# Altium footprint library CONN_POWERJACK.PcbLib: 20 footprints (part 1 of 2)
Each footprint in its own frame and in the unit in brackets; x right, y up, seen from the top. Pads: shape width x height; smd on the part's side, far side on the other; paste and mask are expansions set on the pad; w line width, h text height; cw(c..) or ccw(c..) is an arc to the next point about the centre after c.
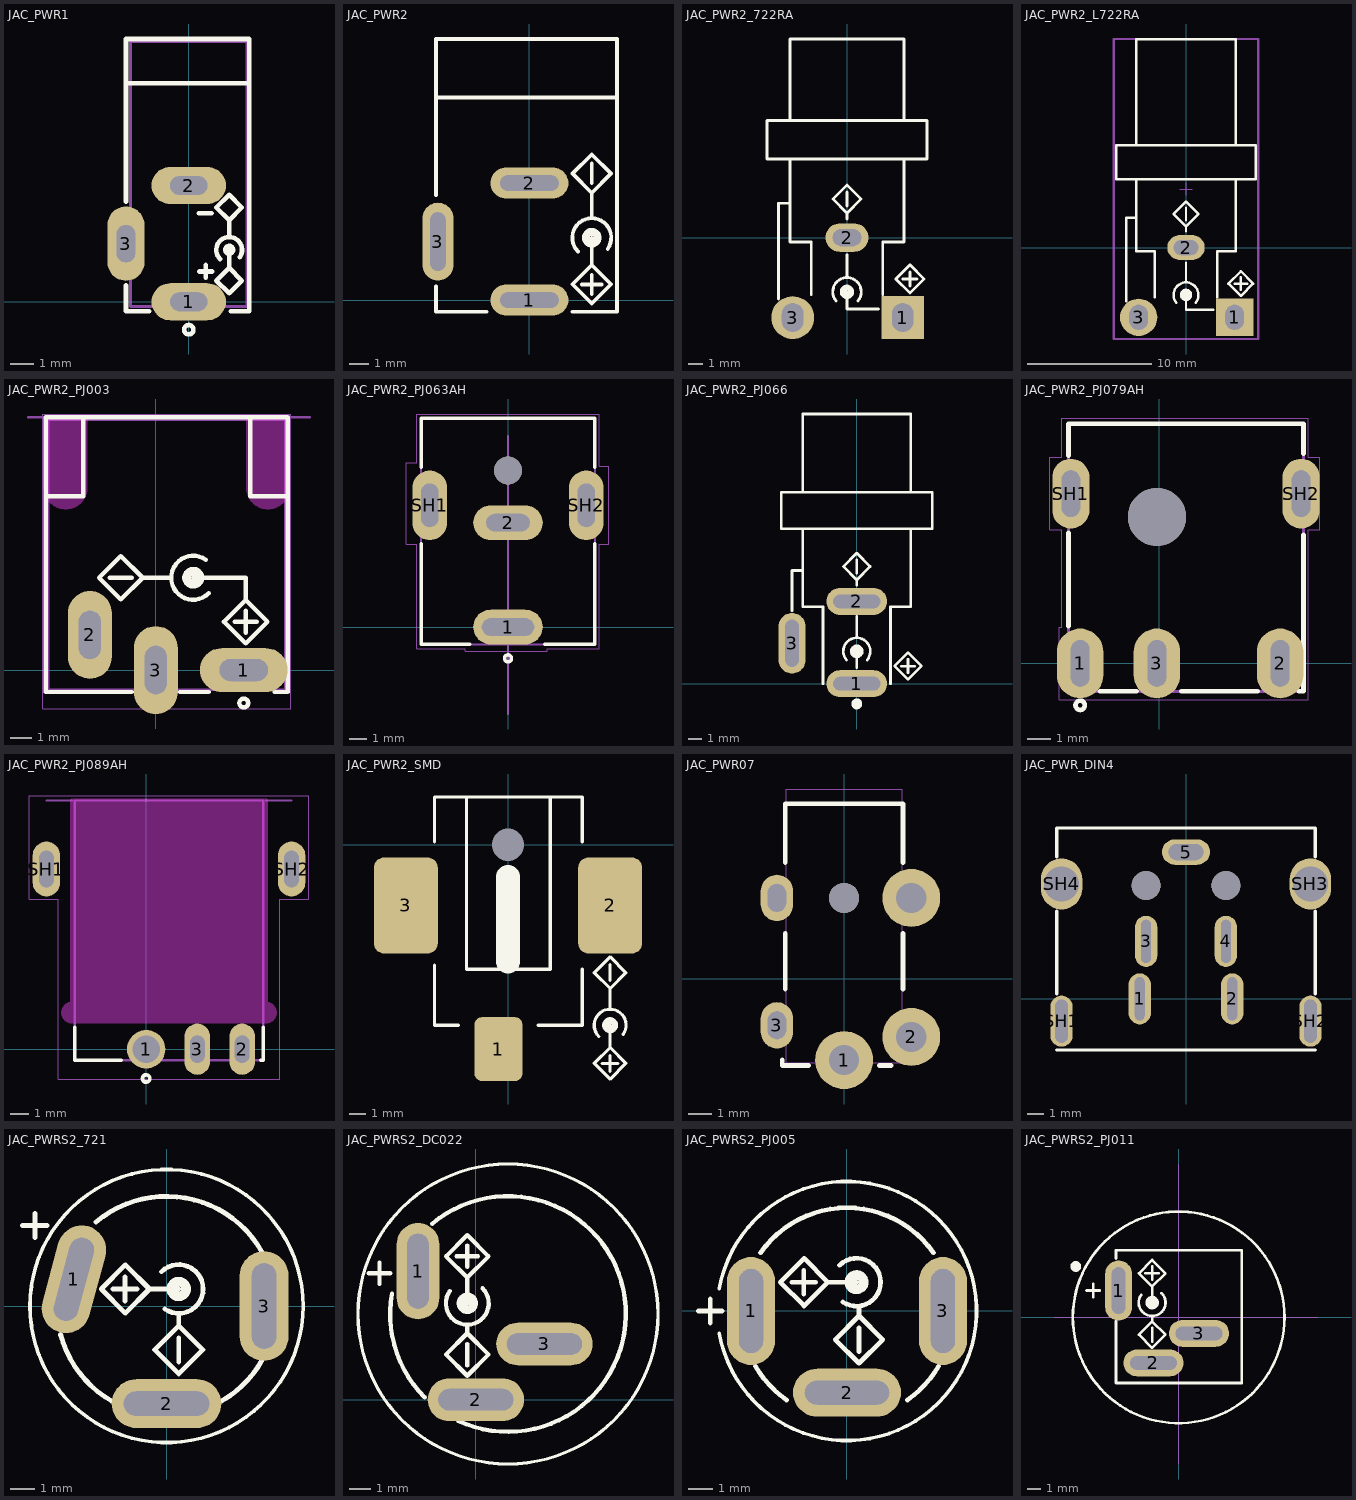
[diagram p0: the footprints below, top view; thin cyan lines are the x and y axes]

## JAC_PWR1 [mm] "DC POWER JACK, 1mm, Power Jack PJ-031C"
pads (3):
  oval 3.2x1.6 hole 0.8 slot 1.6 at 0 deg: 1(0,0) 2(0,5)
  oval 1.6x3.2 hole 0.8 slot 1.6 at 90 deg: 3(-2.7,2.5)
Top Overlay:
  circle w0.2: c1.737,2.234 r0.166
  circle w0.2: c0,-1.2 r0.2
  lines w0.2: -2.7,0.7 -2.7,-0.4 -1.7,-0.4 ; -2.7,4.3 -2.7,11.3 2.6,11.3 2.6,-0.4 1.8,-0.4 ; -2.6,9.4 2.6,9.4 ; 0.423,3.8 0.977,3.8 ; 0.46,1.305 1.014,1.305 ; 0.737,1.029 0.737,1.582 ; 1.346,1.843 cw(c1.737,2.234) 2.191,1.917 ; 1.737,2.234 1.737,1.459 ; 1.737,2.788 1.737,3.508 ; 1.737,1.459 1.189,0.911 1.737,0.363 2.285,0.911 1.737,1.459 ; 1.737,3.508 2.285,4.056 1.737,4.604 1.189,4.056 1.737,3.508
Mechanical 13:
  lines w0.127: -2.5,-0.2 -2.5,11.2 2.5,11.2 2.5,-0.2 -2.5,-0.2
3D body "CUI_DEVICES_PJ-031CH.step": height 7.4, standoff -3.2, extent -2.9,-0.4 2.5,11.2

## JAC_PWR2 [mm] "DC POWER JACK, Power Jack KLDX-0202"
pads (3):
  oval 4x1.6 hole 0.8 slot 3 at 0 deg: 1(0,0) 2(0,6)
  oval 1.6x4 hole 0.8 slot 3 at 90 deg: 3(-4.7,3)
Top Overlay:
  circle w0.4: c3.2,3.2 r0.3
  lines w0.2: -4.8,0.7 -4.8,-0.6 -2.2,-0.6 ; -4.8,5.4 -4.8,13.4 4.5,13.4 4.5,-0.6 2.2,-0.6 ; -4.8,10.4 4.5,10.4 ; 2.493,2.493 cw(c3.2,3.2) 4.019,2.626 ; 2.7,0.8 3.7,0.8 ; 3.2,0.3 3.2,1.3 ; 3.2,3.2 3.2,1.8 ; 3.2,4.2 3.2,5.5 ; 3.2,6 3.2,7 ; 3.2,1.8 2.21,0.81 3.2,-0.18 4.19,0.81 3.2,1.8 ; 3.2,5.5 4.19,6.49 3.2,7.48 2.21,6.49 3.2,5.5
3D body "KLDX-0202-A_rD2.STEP": height 10.8, standoff -4.1, extent -4.9,-0.65 4.5,13.85

## JAC_PWR2_722RA [mm] "DC POWER JACK, 2.1mm Dia, 722RA, right angled"
pads (3):
  rect 3x3 hole 1.5 slot 2 at 90 deg paste-2539.97 mask+0: 1(3.9,-5.6)
  oval 3x2 hole 1.2 slot 2 at 0 deg paste-2539.97 mask+0: 2(0,0)
  round 3 hole 1.5 slot 2 at 90 deg paste-2539.97 mask+0: 3(-3.8,-5.6)
Top Overlay:
  circle w0.4: c0,-3.8 r0.3
  lines w0.2: -4.8,-4.3 -4.8,2.4 -4,2.4 ; -4,5.5 -4,-0.3 -2.5,-0.3 -2.5,-4 ; -0.766,-4.443 cw(c0,-3.8) 0.766,-4.443 ; 0,-3.8 0,-5 2.2,-5 ; 0,-2.8 0,-1.2 ; 0,1.3 0,1.7 ; 0,2.2 0,3.2 ; 2.5,-4 2.5,-0.3 4,-0.3 4,5.5 ; 3.9,-2.9 4.9,-2.9 ; 4.4,-3.4 4.4,-2.4 ; -4,8.2 -4,13.9 4,13.9 4,8.2 ; -4,8.2 4,8.2 ; -4,8.2 -5.6,8.2 -5.6,5.5 5.6,5.5 5.6,8.2 4,8.2 ; 0,1.7 -0.99,2.69 0,3.68 0.99,2.69 0,1.7 ; 3.41,-2.89 4.4,-3.88 5.39,-2.89 4.4,-1.9 3.41,-2.89
3D body "722RA.STEP": height 13.88, standoff -3.57, extent -5.512,-7.018 5.512,13.79

## JAC_PWR2_L722RA [mm] "DC POWER JACK, 2.1mm Dia, L722RA, right angled"
pads (3):
  rect 3x3 hole 1.5 slot 2 at 90 deg paste-2539.97 mask+0: 1(3.9,-5.6)
  oval 3x2 hole 1.2 slot 2 at 0 deg paste-2539.97 mask+0: 2(0,0)
  round 3 hole 1.5 slot 2 at 90 deg paste-2539.97 mask+0: 3(-3.8,-5.6)
Top Overlay:
  circle w0.4: c0,-3.8 r0.3
  lines w0.2: -4.8,-4.3 -4.8,2.4 -4,2.4 ; -4,5.5 -4,-0.3 -2.5,-0.3 -2.5,-4 ; -0.766,-4.443 cw(c0,-3.8) 0.766,-4.443 ; 0,-3.8 0,-5 2.2,-5 ; 0,-2.8 0,-1.2 ; 0,1.3 0,1.7 ; 0,2.2 0,3.2 ; 2.5,-4 2.5,-0.3 4,-0.3 4,5.5 ; 3.9,-2.9 4.9,-2.9 ; 4.4,-3.4 4.4,-2.4 ; -4,8.2 -4,16.7 4,16.7 4,8.2 ; -4,8.2 4,8.2 ; -4,8.2 -5.6,8.2 -5.6,5.5 5.6,5.5 5.6,8.2 4,8.2 ; 0,1.7 -0.99,2.69 0,3.68 0.99,2.69 0,1.7 ; 3.41,-2.89 4.4,-3.88 5.39,-2.89 4.4,-1.9 3.41,-2.89
Mechanical 15:
  lines w0.1: -0.5,4.699 0.5,4.699 ; 0,4.199 0,5.199
  lines w0.2: -5.815,-7.339 5.815,-7.339 5.815,16.737 -5.815,16.737 -5.815,-7.339
3D body "Conn_Switchcraft_L722RA_eec.STEP": height 0.25, standoff 0, extent -5.815,-7.339 5.815,16.737

## JAC_PWR2_PJ003 [mm] "DC POWER JACK, CUI Inc. PJ-003A, 7.8mm Height, 2mm Center pin"
height 7.8
pads (3):
  oval 4x2 hole 1 slot 2.2 at 0 deg: 1(4,0)
  oval 2x4 hole 1 slot 2.2 at 90 deg: 2(-3,1.6) 3(0,0)
Top Overlay:
  circle w0.4: c1.7,4.2 r0.3
  circle w0.2: c4,-1.5 r0.2
  lines w0.2: -5,11.4 -5,-1 -1.1,-1 ; -3.3,11.4 -3.3,7.9 -5,7.9 -5,11.5 6,11.5 6,7.9 4.3,7.9 4.3,11.4 ; -2.1,4.2 -1.1,4.2 ; 0.7,4.2 -0.6,4.2 ; 1.1,-1 2.4,-1 ; 1.7,4.2 4.1,4.2 4.1,3.2 4.09,3.19 ; 2.274,5.019 ccw(c1.7,4.2) 2.407,3.493 ; 3.6,2.2 4.6,2.2 ; 4.1,1.7 4.1,2.7 ; 5.4,-1 6,-1 6,11.4 ; -0.6,4.2 -1.59,5.19 -2.58,4.2 -1.59,3.21 -0.6,4.2 ; 4.09,3.19 5.08,2.2 4.09,1.21 3.1,2.2 4.09,3.19
Keep-Out Layer:
  board cut-out: 6,11.5 6,8.3 6,8.211 5.965,8.037 5.898,7.874 5.799,7.726 5.674,7.601 5.526,7.502 5.363,7.435 5.189,7.4 5.1,7.4 5.011,7.4 4.837,7.435 4.674,7.502 4.526,7.601 4.401,7.726 4.302,7.874 4.235,8.037 4.2,8.211 4.2,8.3 4.2,11.5
  board cut-out: -5,11.5 -5,8.3 -5,8.211 -4.965,8.037 -4.898,7.874 -4.799,7.726 -4.674,7.601 -4.526,7.502 -4.363,7.435 -4.189,7.4 -4.1,7.4 -4.011,7.4 -3.837,7.435 -3.674,7.502 -3.526,7.601 -3.401,7.726 -3.302,7.874 -3.235,8.037 -3.2,8.211 -3.2,8.3 -3.2,11.5
Keep-Out Layer:
  lines w0.2: -5,8.3 ccw(c-4.1,8.3) -3.2,8.3 -3.2,11.5 -5,11.5 -5,8.3 ; 4.2,8.3 ccw(c5.1,8.3) 6,8.3 6,11.5 4.2,11.5 4.2,8.3
Mechanical 1:
  lines w0.1: -5.8,11.5 7,11.5
  lines w0.127: -4.9,-0.9 5.9,-0.9 5.9,11.4 -4.9,11.4 -4.9,-0.9
  text "Edge of Board" at -2.8,11.9 h1.2
Mechanical 4:
  lines w0.05: -5.15,-1.76 6.15,-1.76 6.15,11.65 -5.15,11.65 -5.15,-1.76
3D body "CUI_PJ-003A.step": height 7.8, standoff -2.9, extent -4.9,-0.9 5.9,11.4

## JAC_PWR2_PJ063AH [mm] "DC POWER JACK, CUI PJ-063AH, 2mm Center pin"
pads (5):
  oval 4x2 hole 1 slot 3 at 0 deg: 1(0,0)
  oval 4x2 hole 1 slot 2.5 at 0 deg: 2(0,6)
  oval 2x4 hole 1 slot 2.5 at 90 deg: SH1(-4.5,7) SH2(4.5,7)
  round 1.6 hole 1.6 unplated: ""(0,9)
Top Overlay:
  circle w0.2: c0,-1.8 r0.2
  lines w0.2: -5,4.8 -5,-1 -2.2,-1 ; -5,9.2 -5,12 5,12 5,9.2 ; 2.1,-1 5,-1 5,4.8
Mechanical 13:
  lines w0.102: 0,-5 0,11
  lines w0.127: -5,-1 5,-1 5,12 -5,12 -5,-1
Mechanical 15:
  lines w0.05: -5.85,4.75 -5.25,4.75 -5.25,-1.25 -2.45,-1.25 -2.45,-1.4 2.25,-1.4 2.25,-1.25 5.25,-1.25 5.25,4.75 5.8,4.75 5.8,9.25 5.25,9.25 5.25,12.25 -5.25,12.25 -5.25,9.45 -5.85,9.45 -5.85,4.75
3D body "CUI_DEVICES_PJ-063AH.step": height 9, standoff -3, extent -5.15,-1 5.15,12

## JAC_PWR2_PJ066 [mm] "DC POWER JACK, 2.1mm Dia, PJ-066A, right angled"
height 19
pads (3):
  oval 4.5x2 hole 1 slot 3.5 at 0 deg: 1(0,0) 2(0,6.1)
  oval 2x4.5 hole 1 slot 3.5 at 90 deg: 3(-4.8,3)
Top Overlay:
  circle w0.4: c0,2.4 r0.3
  circle w0.4: c0,-1.5 r0.2
  lines w0.2: -4.8,5.4 -4.8,8.4 -4,8.4 ; -4,11.5 -4,5.7 -2.5,5.7 -2.5,0 ; -0.766,1.757 cw(c0,2.4) 0.766,1.757 ; 0,1.2 0,2.4 ; 0,3.4 0,5 ; 0,7.3 0,7.7 ; 0,8.2 0,9.2 ; 2.5,0 2.5,5.7 4,5.7 4,11.5 ; 3.3,1.3 4.3,1.3 ; 3.8,0.8 3.8,1.8 ; -4,14.2 -5.6,14.2 -5.6,11.5 5.6,11.5 5.6,14.2 4,14.2 ; -4,14.2 4,14.2 ; -4,14.2 -4,20 4,20 4,14.2 ; 0,7.7 0.99,8.69 0,9.68 -0.99,8.69 0,7.7 ; 2.81,1.31 3.8,2.3 4.79,1.31 3.8,0.32 2.81,1.31
3D body "CUI_PJ-066A.step": height 12.25, standoff -2.85, extent -5.5,-0.15 5.5,19.9

## JAC_PWR2_PJ079AH [mm] "DC POWER JACK, CUI PJ-079AH, 2mm Center pin"
pads (6):
  oval 2x3 hole 0.8 slot 2 at 90 deg: 1(-3.4,0) 2(5.2,0) 3(-0.1,0)
  oval 1.6x3 hole 0.8 slot 2 at 90 deg: SH1(-3.8,7.3) SH2(6.1,7.3)
  round 2.5 hole 2.5 unplated: ""(-0.1,6.3)
Top Overlay:
  circle w0.2: c-3.4,-1.8 r0.2
  lines w0.2: -3.9,1.6 -3.9,5.62 ; -3.9,8.925 -3.9,10.3 6.2,10.3 6.2,9.025 ; -2.55,-1.2 -0.98,-1.2 ; 0.95,-1.2 4.24,-1.2 ; 6,-1.2 6.2,-1.2 6.2,5.53
Mechanical 13:
  lines w0.127: -3.9,-1.2 6.2,-1.2 6.2,10.3 -3.9,10.3 -3.9,-1.2
Mechanical 15:
  lines w0.05: -4.71,5.74 -4.2,5.74 -4.2,1.56 -4.31,1.56 -4.31,-1.56 6.4,-1.56 6.4,5.74 6.91,5.74 6.91,8.86 6.4,8.86 6.4,10.55 -4.2,10.55 -4.2,8.86 -4.71,8.86 -4.71,5.74
3D body "CUI_DEVICES_PJ-079AH.step": height 7.05, standoff -2.73, extent -3.87,-1.325 6.2,10.325

## JAC_PWR2_PJ089AH [mm] "DC POWER JACK, CUI PJ-089AH-MSMT, midmount, 5.4mm Height, 2mm Center pin"
height 5.4
pads (5):
  round 2.1 hole 1.5: 1(0,0)
  oval 1.4x2.8 hole 0.8 slot 1.5 at 90 deg: 2(5.25,0) 3(2.8,0)
  oval 1.5x3 hole 0.8 slot 2 at 90 deg: SH1(-5.45,9.85) SH2(7.95,9.85)
Top Overlay:
  circle w0.2: c0,-1.6 r0.2
  lines w0.2: -3.9,1.19 -3.9,-0.6 -1.36,-0.6 ; 6.27,-0.6 6.4,-0.6 6.4,1.19
Keep-Out Layer:
  board cut-out: -4.05,1.5 -4.149,1.5 -4.333,1.576 -4.474,1.717 -4.55,1.901 -4.55,2.099 -4.474,2.283 -4.333,2.424 -4.149,2.5 -4.05,2.5 -4.05,13.6 6.55,13.6 6.55,2.5 6.649,2.5 6.833,2.424 6.974,2.283 7.05,2.099 7.05,1.901 6.974,1.717 6.833,1.576 6.649,1.5 6.55,1.5
Keep-Out Layer:
  lines w0.2: -4.05,1.5 cw(c-4.05,2) -4.05,2.5 -4.05,13.6 6.55,13.6 6.55,2.5 cw(c6.55,2) 6.55,1.5 -4.05,1.5
Mechanical 1:
  lines w0.1: -5.45,13.6 -4.05,13.6 ; 6.55,13.6 7.95,13.6
Mechanical 13:
  lines w0.127: -3.9,-0.6 6.4,-0.6 6.4,13.6 -3.9,13.6 -3.9,-0.6
Mechanical 15:
  lines w0.05: -6.4,8.2 -4.8,8.2 -4.8,-1.65 7.3,-1.65 7.3,8.2 8.9,8.2 8.9,13.85 -6.4,13.85 -6.4,8.2
3D body "CUI_DEVICES_PJ-089AH-MSMT-TR.step": height 4.76, standoff -2.84, extent -5.6,-0.6 8.1,13.6

## JAC_PWR2_SMD [mm] "DC POWER JACK, CUI PJ-036A-SMT"
pads (4):
  rrect30% 3x4 smd: 1(-0.6,-12.8)
  rrect30% 4x6 smd: 2(6.4,-3.8) 3(-6.4,-3.8)
  rrect30% 0x0 hole 2.032 unplated: 4(0,0)
Top Overlay:
  circle w0.4: c6.4,-11.3 r0.3
  lines w0.2: -4.6,-7.55 -4.6,-11.3 -3.1,-11.3 ; -4.6,0.2 -4.6,3 4.65,3 4.65,0.2 ; -2.6,3 -2.6,-7.8 2.65,-7.8 2.65,2.9 ; 1.9,-11.3 4.65,-11.3 4.65,-7.8 ; 5.693,-12.007 cw(c6.4,-11.3) 7.219,-11.874 ; 5.9,-13.7 6.9,-13.7 ; 6.4,-14.2 6.4,-13.2 ; 6.4,-11.3 6.4,-12.7 ; 6.4,-10.3 6.4,-9 ; 6.4,-8.5 6.4,-7.5 ; 6.4,-12.7 7.39,-13.69 6.4,-14.68 5.41,-13.69 6.4,-12.7 ; 6.4,-9 5.41,-8.01 6.4,-7.02 7.39,-8.01 6.4,-9
  lines w1.5: 0,-7.3 0,-2
3D body "CUI-PJ-036A-SMT.step": height 11.09, standoff -1.51, extent -7.5,-14.1 7.7,3

## JAC_PWR07 [mm] "DC POWER JACK, 0.7mm ID, 2.35mm OD"
height 5
pads (6):
  round 2.5 hole 1.3: 1(0,-3.5) 2(2.9,-2.5) ""(2.9,3.5)
  oval 1.4x2 hole 0.8 slot 1.2 at 90 deg: 3(-2.9,-2) ""(-2.9,3.5)
  round 1.3 hole 1.3 unplated: ""(0,3.5)
Top Overlay:
  lines w0.2: -2.667,-3.484 -2.667,-3.738 -1.524,-3.738 ; -2.54,-0.436 -2.54,1.977 ; -2.54,5.025 -2.54,7.565 2.54,7.565 2.54,5.025 ; 1.524,-3.738 2.032,-3.738 ; 2.54,-0.436 2.54,1.977
Mechanical 13:
  lines w0.05: -2.819,-2.506 -2.819,-1.515 ; -2.819,3.006 -2.819,3.996 ; -2.502,-2.506 -3.073,-2.506 -3.073,-1.515 -2.502,-1.515 ; -2.502,3.006 -3.073,3.006 -3.073,3.996 -2.502,3.996 ; -0.495,-3.611 -0.495,-3.738 0.495,-3.738 0.495,-3.611 ; 2.502,-2.989 3.073,-2.989 3.073,-1.998 2.502,-1.998 ; 2.502,3.006 3.073,3.006 3.073,3.996 2.502,3.996 ; 2.819,-2.989 2.819,-1.998 ; 2.819,3.006 2.819,3.996 ; -2.502,-3.611 -2.502,8.2 2.502,8.2 2.502,-3.611 -2.502,-3.611
3D body "Conn_Kobiconn_163-4307-E.stp": height 5, standoff -2.5, extent -3.309,-3.854 3.309,8.2

## JAC_PWR_DIN4 [mm] "Power Connector, KPJX-4S-S"
height 5
pads (11):
  oval 1.4x3.2 hole 0.6 slot 2.7 at 90 deg: 1(-2.9,0) 2(2.9,0) 3(-2.5,3.6) 4(2.5,3.6)
  oval 3x1.6 hole 1 slot 2.2 at 0 deg: 5(0,9.2)
  oval 1.4x3.2 hole 0.8 slot 2.7 at 90 deg: SH1(-7.8,-1.4) SH2(7.8,-1.4)
  oval 2.6x3.2 hole 2.2: SH3(7.8,7.2) SH4(-7.8,7.2)
  round 1.8 hole 1.8 unplated: ""(-2.5,7.1) ""(2.5,7.1)
Top Overlay:
  lines w0.2: -8.1,-3.2 8.1,-3.2 ; -8.1,0.3 -8.1,5.5 ; -8.1,8.9 -8.1,10.7 8.1,10.7 8.1,8.9 ; 8.1,0.3 8.1,5.5
3D body "User Library-KPJX-4S-S.step": height 15, standoff -3.5, extent -8,-3.05 8,14.6

## JAC_PWRS2_721 [mm] "DC POWER JACK, 2.1mm Dia, SWITCHCRAFT 721A"
height 19
pads (3):
  oval 2x4.5 hole 1 slot 3.5 at 75 deg rot 165: 1(-3.8,1.1)
  oval 4.5x2 hole 1 slot 3.5 at 0 deg: 2(0,-4)
  oval 2x4.5 hole 1 slot 3.5 at 90 deg: 3(4,0)
Top Overlay:
  circle w0.15: c0,0 r5.6
  circle w0.4: c0.5,0.7 r0.3
  lines w0.2: -5.9,3.3 -4.9,3.3 ; -5.4,2.8 -5.4,3.8 ; -4.347,-1.165 ccw(c0,0) -2.25,-3.897 ; -2.893,3.447 cw(c0,0) 3.897,2.25 ; -2.2,0.7 -1.2,0.7 ; -1.7,0.2 -1.7,1.2 ; -0.207,1.407 cw(c0.5,0.7) -0.074,-0.119 ; 0.5,-2.3 0.5,-1.3 ; 0.5,-0.4 0.5,-0.8 ; 0.5,0.7 -0.7,0.7 ; 2.25,-3.897 ccw(c0,0) 3.897,-2.25 ; -0.7,0.7 -1.69,1.69 -2.68,0.7 -1.69,-0.29 -0.7,0.7 ; 0.5,-0.8 -0.49,-1.79 0.5,-2.78 1.49,-1.79 0.5,-0.8
3D body "721A_edited.STEP": height 16.06, standoff -4.77, extent -5.512,-5.512 5.512,5.512

## JAC_PWRS2_DC022 [mm] "DC POWER JACK, 2.1mm Dia, DC-022"
height 19
pads (3):
  oval 2x4.5 hole 1 slot 3.5 at 90 deg: 1(-2.7,6)
  oval 4.5x2 hole 1 slot 3.5 at 0 deg: 2(0,0) 3(3.2,2.6)
Top Overlay:
  circle w0.4: c-0.4,4.5 r0.3
  circle w0.15: c1.5,4 r7
  lines w0.2: -5,5.9 -4,5.9 ; -4.5,5.4 -4.5,6.4 ; -3.916,4.955 ccw(c1.5,4) -2.389,0.111 ; -2.035,8.213 cw(c1.5,4) -0.824,-0.985 ; -1.219,5.074 ccw(c-0.4,4.5) 0.307,5.207 ; -0.9,6.7 0.1,6.7 ; -0.4,1.6 -0.4,2.6 ; -0.4,3.5 -0.4,3.1 ; -0.4,4.5 -0.4,5.7 ; -0.4,6.2 -0.4,7.2 ; -0.4,3.1 0.59,2.11 -0.4,1.12 -1.39,2.11 -0.4,3.1 ; -0.4,5.7 -1.39,6.69 -0.4,7.68 0.59,6.69 -0.4,5.7
3D body "User Library-KLS1-DC-022B.step": height 13.8, standoff -4.5, extent -6,-4.66 9,12.66

## JAC_PWRS2_PJ005 [mm] "DC POWER JACK, 2.1mm Dia, PJ-005A"
height 19
pads (3):
  oval 2x4.5 hole 1 slot 3.5 at 90 deg: 1(-4,0) 3(4,0)
  oval 4.5x2 hole 1 slot 3.5 at 0 deg: 2(0,-3.4)
Top Overlay:
  circle w0.4: c0.4,1.2 r0.3
  lines w0.15: -5.318,-0.938 ccw(c0,0) -5.318,0.938
  lines w0.2: -6.2,0 -5.2,0 ; -5.7,-0.5 -5.7,0.5 ; -3.811,-2.3 ccw(c0,-0.1) -2.524,-3.704 ; -3.604,2.424 cw(c0,-0.1) 3.604,2.424 ; -2.3,1.2 -1.3,1.2 ; -1.8,0.7 -1.8,1.7 ; -0.307,1.907 cw(c0.4,1.2) -0.174,0.381 ; 0.4,1.2 -0.8,1.2 ; 0.5,-1.7 0.5,-0.7 ; 0.5,0.2 0.5,-0.2 ; 2.524,-3.704 ccw(c0,-0.1) 3.811,-2.3 ; -0.8,1.2 -1.79,2.19 -2.78,1.2 -1.79,0.21 -0.8,1.2 ; 0.5,-0.2 -0.49,-1.19 0.5,-2.18 1.49,-1.19 0.5,-0.2
3D body "CUI_PJ-005A.step": height 16.15, standoff -4.75, extent -5.275,-5.773 5.275,5.774

## JAC_PWRS2_PJ011 [mm] "DC POWER JACK, 2.0mm Dia, PJ-011A"
height 13
pads (3):
  oval 2x4.5 hole 1 slot 3.5 at 90 deg: 1(-4.5,2)
  oval 4.5x2 hole 1 slot 3.5 at 0 deg: 2(-1.9,-3.4) 3(1.5,-1.2)
Top Overlay:
  circle w0.4: c-2,1.1 r0.3
  circle w0.2: c-0.02,0 r7.9
  circle w0.4: c-7.7,3.8 r0.2
  lines w0.2: -6.9,2 -5.9,2 ; -6.4,1.5 -6.4,2.5 ; -4.7,-0.3 -4.7,-4.9 4.7,-4.9 4.7,5 -4.7,5 -4.7,4.4 ; -2.819,1.674 ccw(c-2,1.1) -1.293,1.807 ; -2.5,3.3 -1.5,3.3 ; -2,-1.8 -2,-0.8 ; -2,0.1 -2,-0.3 ; -2,1.1 -2,2.3 ; -2,2.8 -2,3.8 ; -2,-0.3 -2.99,-1.29 -2,-2.28 -1.01,-1.29 -2,-0.3 ; -2,2.3 -1.01,3.29 -2,4.28 -2.99,3.29 -2,2.3
Mechanical 1:
  lines w0.001: -4.92,0.25 -4.12,0.25 -4.12,3.75 -4.92,3.75 -4.92,0.25 ; -3.4,-3.7 -3.4,-3.1 -0.4,-3.1 -0.4,-3.7 -3.4,-3.7 ; 0,-1.55 0,-0.95 3,-0.95 3,-1.55 0,-1.55
Mechanical 4:
  circle w0.127: c-0.02,0 r7.9
  circle w0.127: c-0.02,0 r7.9
  lines w0.05: -9.32,0 10.38,0 -9.32,0 ; -0.02,-10.95 -0.02,11.45 -0.02,-10.95
3D body "CUI_PJ-011A.step": height 13.3, standoff -4.6, extent -8.66,-7.9 8.66,7.9